# Altium integrated library Altera APEX 20KE.IntLib: 235 symbols (part 46 of 49)
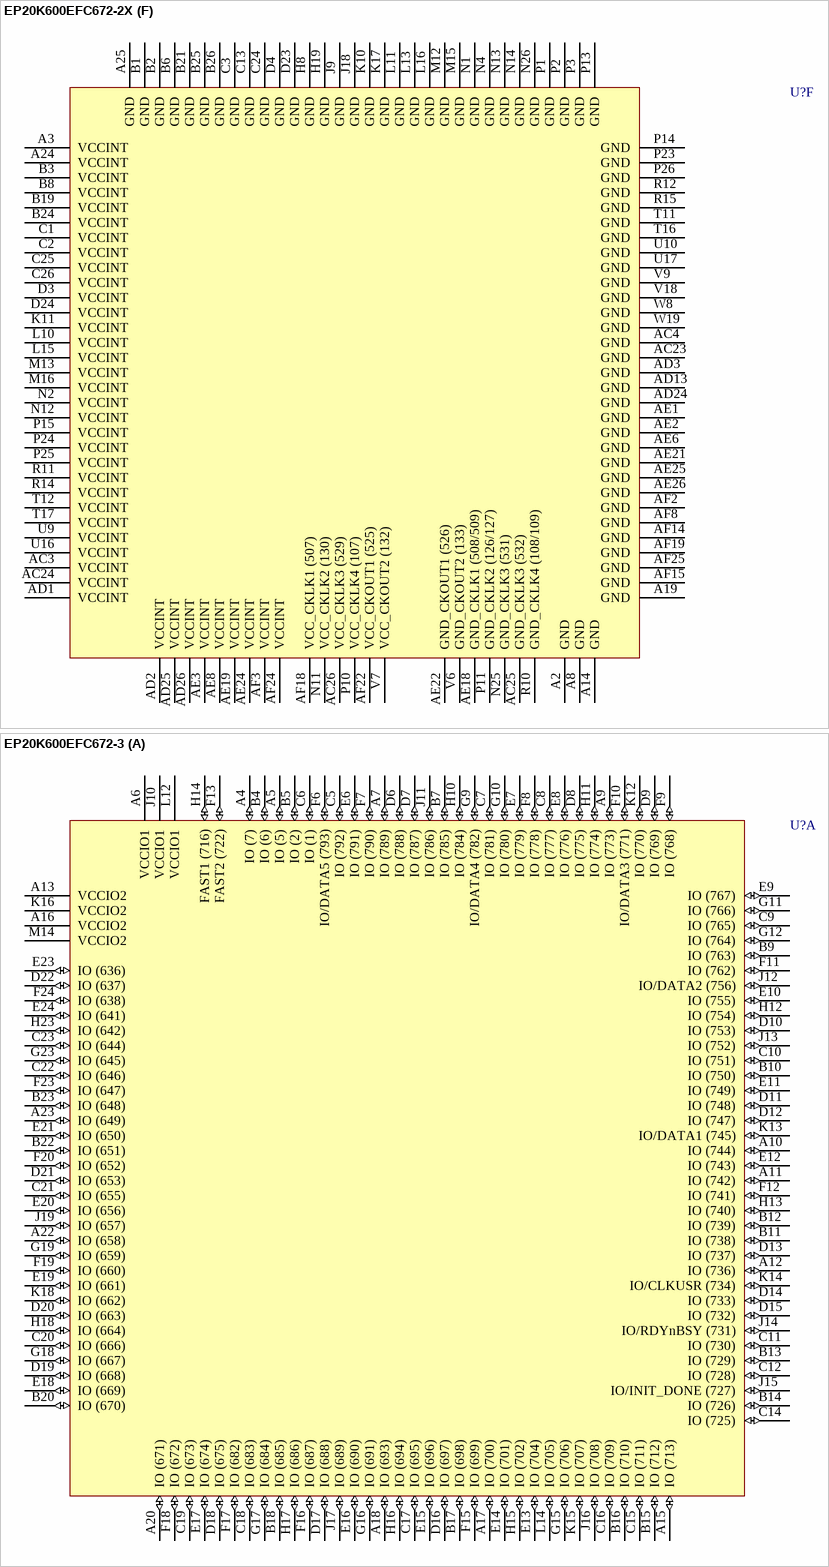
[diagram p444: symbols EP20K600EFC672-2X to EP20K600EFC672-3]

## EP20K1500EBC652-2
designator U?
APEX 20K1500E PLD, 652-Pin BGA, Commercial Grade, Speed Grade 2; Published: 17-Jul-2002; LatestRevisionDate: 13-Apr-2006; LatestRevisionNote: IPC-7351 Footprint Added.; DatasheetVersion: Mar-2004; PackageVersion: ver14.1, Oct-2005; PackageReference: BGA652; Publisher: Altium Limited; PackageDescription: 652-Ball Ball Grid Array (BGA652); Code_JEDEC: MO-192-BAW-1; ComponentLink1Description: Manufacturer Link; ComponentLink1URL: http://www.altera.com/products/devices/apex/apx-index.html; ComponentLink2Description: Datasheet; ComponentLink2URL: http://www.altera.com/literature/ds/apex.pdf
footprint BGA652 (BGA, 652-Leads, Body 45x45mm, Pitch 1.27mm)
3D model EP20K1500E-BGA652TU (652-Ball Ball Grid Array (BGA652))
part A pins: A2 IO (1081) (io), A3 IO (1074) (io), A4 IO (1066) (io), A5 IO (1062) (io), A6 IO (1051) (io), A7 IO (1044) (io), A8 IO/DATA2 (1033) (io), A9 IO (1028) (io), A10 IO (1019) (io), A11 IO (1010) (io), A12 IO (1006) (io), A13 IO (1004) (io), A14 IO/RDYnBSY (993) (io), A15 IO (991) (io), A16 IO (984) (io), A20 IO (971) (io), A21 IO (964) (io), A22 IO (962) (io), A23 IO (951) (io), A24 IO (949) (io), A25 IO (945) (io), A26 IO (936) (io), A27 IO (927) (io), A28 IO (922) (io), A29 IO (910) (io), A30 IO (903) (io), A31 IO (892) (io), A32 IO (888) (io), A33 IO (880) (io), A34 IO (873) (io), B3 IO (1084) (io), B4 IO (1080) (io), B5 IO/DATA4 (1070) (io), B6 IO (1063) (io), B7 IO/DATA3 (1053) (io), B8 IO (1045) (io), B9 IO (1039) (io), B10 IO (1029) (io), B11 IO (1024) (io), B12 IO (1014) (io), B13 IO (1007) (io), B14 IO (994) (io), B15 IO (992) (io), B16 IO (986) (io), B17 FAST2 (981) (io), B19 FAST1 (975) (io), B20 IO (969) (io), B21 IO (963) (io), B22 IO (961) (io), B23 IO (948) (io), B24 IO (941) (io), B25 IO (931) (io), B26 IO (926) (io), B27 IO (915) (io), B28 IO (909) (io), B29 IO (901) (io), B30 IO (891) (io), B31 IO (884) (io), B32 IO (874) (io), B33 IO (870) (io), C4 VCCIO1 (power), C5 IO (1082) (io), C6 IO (1076) (io), C7 IO (1064) (io), C8 IO (1056) (io), C9 IO (1047) (io), C10 IO (1041) (io), C11 IO (1031) (io), C12 IO (1025) (io), C13 IO/DATA1 (1016) (io), C14 IO (1008) (io), C15 IO/CLKUSR (998) (io), C16 IO/INIT_DONE (988) (io), C20 IO (967) (io), C21 IO (957) (io), C22 IO (947) (io), C23 IO (939) (io), C24 IO (930) (io), C25 IO (924) (io), C26 IO (913) (io), C27 IO (907) (io), C28 IO (898) (io), C29 IO (890) (io), C30 IO (878) (io), C31 IO (872) (io), C32 VCCIO2 (power), D5 VCCIO1 (power), D6 IO (1086) (io), D7 IO (1078) (io), D8 IO (1065) (io), D9 IO (1060) (io), D10 IO (1048) (io), D11 IO (1043) (io), D13 IO (1026) (io), D14 IO (1012) (io), D15 IO (1002) (io), D16 IO (990) (io), D20 IO (965) (io), D21 IO (953) (io), D22 IO (943) (io), D23 IO (929) (io), D25 IO (911) (io), D26 IO (906) (io), D27 IO (894) (io), D28 IO (889) (io), D29 IO (876) (io), D30 IO (868) (io), D31 VCCIO2 (power), E7 IO/DATA5 (1088) (io), E8 IO (1079) (io), E9 IO (1068) (io), E10 IO (1058) (io), E11 IO (1046) (io), E13 IO (1027) (io), E14 IO (1021) (io), E15 IO (1009) (io), E16 IO (996) (io), E17 VCCIO1 (power), E19 VCCIO2 (power), E20 IO (959) (io), E21 IO (946) (io), E22 IO (934) (io), E23 IO (928) (io), E25 IO (908) (io), E26 IO (896) (io), E27 IO (886) (io), E28 IO (875) (io), E29 IO (866) (io)
part B pins: AA30 IO/LOCK1 (684) (io), AA32 IO (687) (io), AA33 IO (688) (io), AA34 IO (689) (io), AB30 IO (671) (io), AB31 IO (674) (io), AB32 IO (676) (io), AB33 IO (678) (io), AB34 IO (680) (io), AB35 IO (682) (io), AC30 IO (661) (io), AC31 IO (663) (io), AC33 IO (665) (io), AC34 IO (667) (io), AC35 IO (669) (io), AD30 IO (648) (io), AD31 IO (650) (io), AD32 IO (652) (io), AD33 IO (654) (io), AD34 IO (656) (io), AD35 IO (658) (io), AE30 IO (637) (io), AE31 IO (639) (io), AE32 IO (641) (io), AE34 IO (643) (io), AE35 IO (645) (io), AF30 IO (624) (io), AF31 IO (626) (io), AF32 IO (628) (io), AF33 IO (630) (io), AF34 IO (632) (io), AF35 IO (635) (io), AG30 IO (611) (io), AG31 IO (613) (io), AG32 IO (615) (io), AG33 IO (617) (io), AG34 IO (619) (io), AG35 IO (622) (io), AH30 IO (596) (io), AH32 IO (600) (io), AH33 IO (602) (io), AH34 IO (607) (io), AJ30 IO (578) (io), AJ31 IO (580) (io), AJ32 IO (583) (io), AJ33 IO (585) (io), AJ34 IO (594) (io), AJ35 IO (610) (io), AK30 IO (563) (io), AK31 IO (567) (io), AK32 IO (569) (io), AK34 IO (589) (io), AK35 IO (605) (io), AL31 VCCIO4 (power), AL32 VCCIO4 (power), AL33 IO (561) (io), AL34 IO (572) (io), AL35 IO (591) (io), AM35 IO (574) (io), D35 IO (833) (io), E34 IO (839) (io), E35 IO (806) (io), F30 VCCIO3 (power), F31 VCCIO3 (power), F32 IO (850) (io), F33 IO (844) (io), F34 IO (811) (io), G31 IO (828) (io), G32 IO (822) (io), G33 IO (817) (io), G34 IO (800) (io), G35 IO/LVDSRX16n (775) (io), H30 IO (794) (io), H31 IO (787) (io), H32 IO (781) (io), H33 IO (779) (io), H34 IO/LVDSRX16p (776) (io), H35 IO (768) (io), J30 IO (774) (io), J31 IO/LVDSRX15n (773) (io), J32 IO/LVDSRX15p (772) (io), J33 IO/LVDSRX14p (770) (io), J34 IO/LVDSRX14n (769) (io), J35 IO/LVDSRX13n (767) (io), K30 IO/LVDSRX13p (766) (io), K32 IO/LVDSRX12p (763) (io), K33 IO/LVDSRX12n (762) (io), K34 IO (761) (io), K35 IO/LVDSRX11n (760) (io), L30 IO/LVDSRX11p (759) (io), L31 IO/LVDSRX10p (757) (io), L32 IO/LVDSRX10n (756) (io), L33 IO (755) (io), L34 IO/LVDSRX09n (754) (io), L35 IO/LVDSRX09p (753) (io), M31 IO/LVDSRX08p (750) (io), M32 IO/LVDSRX08n (749) (io), M33 IO (748) (io), M34 IO/LVDSRX07n (747) (io), M35 IO/LVDSRX07p (746) (io), N30 IO/LVDSRX06p (744) (io), N31 IO/LVDSRX06n (743) (io), N32 IO (742) (io), N33 IO/LVDSRX05n (741) (io), N34 IO/LVDSRX05p (740) (io), P30 IO/LVDSRX04p (737) (io), P31 IO/LVDSRX04n (736) (io), P32 IO (735) (io), P33 IO/LVDSRX03n (734) (io), P34 IO/LVDSRX03p (733) (io), P35 IO/LVDSRX02p (731) (io), R30 IO/LVDSRX02n (730) (io), R31 IO/LOCK3 (729) (io), R32 IO/LVDSRX01n (728) (io), R33 IO/LVDSRX01p (727) (io), R35 IO (724) (io), T30 IO (723) (io), T31 IO/LVDSRXINCLK1n (722) (io), T32 IO/LVDSRXINCLK1p (721) (io), T35 IO/CLKLK_OUT1n (716) (io), U30 VCCIO3 (power), W30 VCCIO4 (power), W34 CLK1p (706) (in), Y31 IO/CLKLK_FB1n (694) (io), Y33 IO/CLK3n (696) (io), Y34 CLK3p (697) (in), Y35 IO/CLK1n (698) (io)
part C pins: AL7 IO (324) (io), AL8 IO (333) (io), AL9 IO (344) (io), AL10 IO (354) (io), AL11 IO (366) (io), AL13 IO (385) (io), AL14 IO (391) (io), AL15 IO (403) (io), AL16 IO (416) (io), AL17 VCCIO6 (power), AL19 VCCIO5 (power), AL20 IO (452) (io), AL21 IO (465) (io), AL22 IO (477) (io), AL23 IO (483) (io), AL25 IO (502) (io), AL26 IO (514) (io), AL27 IO (524) (io), AL28 IO (535) (io), AL29 IO (544) (io), AM5 VCCIO6 (power), AM6 IO (326) (io), AM7 IO (334) (io), AM8 IO (347) (io), AM9 IO (352) (io), AM10 IO (364) (io), AM11 IO (369) (io), AM13 IO (386) (io), AM14 IO (400) (io), AM15 IO (410) (io), AM16 IO/LVDSDESKEW (422) (io), AM20 IO (446) (io), AM21 IO (458) (io), AM22 IO (468) (io), AM23 IO (482) (io), AM25 IO (499) (io), AM26 IO (504) (io), AM27 IO (516) (io), AM28 IO (521) (io), AM29 IO (534) (io), AM30 IO (542) (io), AN4 VCCIO6 (power), AN5 IO (330) (io), AN6 IO (336) (io), AN7 IO (348) (io), AN8 IO (356) (io), AN9 IO (365) (io), AN10 IO (371) (io), AN11 IO (381) (io), AN12 IO (387) (io), AN13 IO (396) (io), AN14 IO (404) (io), AN15 IO (414) (io), AN16 IO (424) (io), AN20 IO (444) (io), AN21 IO (454) (io), AN22 IO (464) (io), AN23 IO (472) (io), AN24 IO (481) (io), AN25 IO (487) (io), AN26 IO (497) (io), AN27 IO (503) (io), AN28 IO (512) (io), AN29 IO (520) (io), AN30 IO (532) (io), AN31 IO (538) (io), AN32 VCCIO5 (power), AN33 VCCIO5 (power), AP3 IO (328) (io), AP4 IO (332) (io), AP5 IO (342) (io), AP6 IO (349) (io), AP7 IO (359) (io), AP8 IO (367) (io), AP9 IO (373) (io), AP10 IO (383) (io), AP11 IO (388) (io), AP12 IO (398) (io), AP13 IO (405) (io), AP14 IO (418) (io), AP15 IO (420) (io), AP16 IO (426) (io), AP17 FAST4 (431) (io), AP19 FAST3 (437) (io), AP20 IO (442) (io), AP21 IO (448) (io), AP22 IO (450) (io), AP23 IO (463) (io), AP24 IO (470) (io), AP25 IO (480) (io), AP26 IO (485) (io), AP27 IO (495) (io), AP28 IO (501) (io), AP29 IO (509) (io), AP30 IO (519) (io), AP31 IO (526) (io), AP32 IO (536) (io), AP33 IO (540) (io), AR2 IO (331) (io), AR3 IO (338) (io), AR4 IO (346) (io), AR5 IO (350) (io), AR6 IO (361) (io), AR7 IO (368) (io), AR8 IO (379) (io), AR9 IO (384) (io), AR10 IO (393) (io), AR11 IO (402) (io), AR12 IO (406) (io), AR13 IO (408) (io), AR14 IO (419) (io), AR15 IO (421) (io), AR16 IO (428) (io), AR20 IO (440) (io), AR21 IO (447) (io), AR22 IO (449) (io), AR23 IO (460) (io), AR24 IO (462) (io), AR25 IO (466) (io), AR26 IO (475) (io), AR27 IO (484) (io), AR28 IO (489) (io), AR29 IO (500) (io), AR30 IO (507) (io), AR31 IO (518) (io), AR32 IO (522) (io), AR33 IO (530) (io), AR34 IO (537) (io)
part D pins: AA1 IO (186) (io), AA2 IO/LVDSTXOUTCLK1n (180) (io), AA3 IO/LVDSTXOUTCLK1p (181) (io), AA5 IO/LVDSTX01p (184) (io), AA6 IO/LVDSTX01n (185) (io), AB1 IO (192) (io), AB2 IO/LVDSTX02n (187) (io), AB3 IO/LVDSTX02p (188) (io), AB4 IO/LVDSTX03p (190) (io), AB5 IO/LVDSTX03n (191) (io), AB6 IO/LOCK2 (179) (io), AC1 IO/LVDSTX04n (193) (io), AC2 IO/LVDSTX04p (194) (io), AC4 IO/LVDSTX05p (197) (io), AC5 IO/LVDSTX05n (198) (io), AC6 IO/LOCK4 (199) (io), AD1 IO/LVDSTX06n (200) (io), AD2 IO/LVDSTX06p (201) (io), AD3 IO/LVDSTX07p (203) (io), AD4 IO/LVDSTX07n (204) (io), AD5 IO (205) (io), AD6 IO/LVDSTX08n (206) (io), AE1 IO/LVDSTX08p (207) (io), AE3 IO/LVDSTX09p (210) (io), AE4 IO/LVDSTX09n (211) (io), AE5 IO (212) (io), AE6 IO/LVDSTX10n (213) (io), AF1 IO/LVDSTX10p (214) (io), AF2 IO/LVDSTX11p (216) (io), AF3 IO/LVDSTX11n (217) (io), AF4 IO (218) (io), AF5 IO/LVDSTX12n (219) (io), AF6 IO/LVDSTX12p (220) (io), AG2 IO/LVDSTX13n (224) (io), AG3 IO (225) (io), AG4 IO/LVDSTX14n (226) (io), AG5 IO/LVDSTX14p (227) (io), AG6 IO/LVDSTX15p (229) (io), AH1 IO/LVDSTX13p (223) (io), AH2 IO (231) (io), AH3 IO/LVDSTX16p (233) (io), AH5 IO (236) (io), AH6 IO (238) (io), AJ1 IO/LVDSTX15n (230) (io), AJ2 IO (244) (io), AJ3 IO (263) (io), AJ4 IO (268) (io), AJ5 IO (274) (io), AJ6 IO (279) (io), AK1 IO/LVDSTX16n (232) (io), AK2 IO (257) (io), AK3 IO (290) (io), AK4 IO (296) (io), AK5 IO (301) (io), AK6 IO (307) (io), AL1 IO (251) (io), AL3 VCCIO7 (power), AL4 VCCIO7 (power), AM1 IO (285) (io), C1 IO (27) (io), D1 IO (29) (io), E1 IO (49) (io), E2 IO (33) (io), E3 VCCIO8 (power), E4 VCCIO8 (power), F1 IO (62) (io), F2 IO (46) (io), F4 IO (24) (io), F5 IO (22) (io), F6 IO (16) (io), G1 IO (68) (io), G2 IO (51) (io), G3 IO (44) (io), G4 IO (40) (io), G5 IO (38) (io), G6 IO (35) (io), H2 IO (66) (io), H3 IO (60) (io), H4 IO (57) (io), H6 IO (55) (io), J1 IO (87) (io), J2 IO (85) (io), J3 IO (81) (io), J4 IO (79) (io), J5 IO (74) (io), J6 IO (72) (io), K1 IO (107) (io), K2 IO (105) (io), K3 IO (100) (io), K4 IO (98) (io), K5 IO (94) (io), K6 IO (92) (io), L1 IO (117) (io), L2 IO (116) (io), L4 IO (113) (io), L5 IO (112) (io), L6 IO/DATA6 (111) (io), M1 IO/nWS (124) (io), M2 IO (123) (io), M3 IO (122) (io), M4 IO (120) (io), M5 IO (119) (io), M6 IO/DATA7 (118) (io), N1 IO/nRS (131) (io), N2 IO (130) (io), N3 IO (129) (io), N5 IO (126) (io), N6 IO (125) (io), P1 IO (138) (io), P2 IO/nCS (137) (io), P3 IO (136) (io), P4 IO (135) (io), P5 IO (133) (io), P6 IO (132) (io), R1 IO (146) (io), R2 IO/CS (145) (io), R6 IO (139) (io), T1 IO/CLK2n (153) (io), T2 CLK4p (152) (in), T3 IO/CLK4n (151) (io), T5 IO/CLKLK_FB2n (149) (io), T6 IO/DEV_CLRn (147) (io), U2 CLK2p (160) (in), U6 VCCIO8 (power), W5 IO/LVDSTXINCLK1p (177) (io), W6 VCCIO7 (power), Y4 IO/CLKLK_OUT2n (175) (io), Y5 IO/DEV_OE (171) (io), Y6 IO/LVDSTXINCLK1n (178) (io)
part E pins: AM17 CONF_DONE (429) (io), AM19 TMS (439) (in), AN17 nSTATUS (430) (io), AN19 TCK (438) (in), C17 TDO (982) (out), C19 nCEO (974) (out), D19 TRST (973) (in), T4 CLKLK_FB2p (150) (in), U1 nCE (161) (in), U3 DCLK (159) (in), U4 DATA0 (158) (in), U31 CLKLK_OUT1p (715) (out), U35 MSEL0 (708) (in), W1 TDI (162) (in), W32 nCONFIG (704) (in), W33 CLKLK_ENA (705) (in), W35 MSEL1 (707) (in), Y3 CLKLK_OUT2p (174) (out), Y32 CLKLK_FB1p (695) (in)
part F pins: A1 GND (power), A17 VCCINT (power), A18 GND (power), A19 VCCINT (power), A35 GND (power), AA4 VCCINT (power), AA31 VCCINT (power), AA35 VCC_CKLK1 (690) (power), AC3 VCCINT (power), AC32 VCCINT (power), AE2 VCCINT (power), AE33 VCCINT (power), AG1 VCCINT (power), AH4 VCCINT (power), AH31 VCCINT (power), AH35 VCCINT (power), AK18 GND (power), AK33 VCCINT (power), AL2 VCCINT (power), AL5 GND (power), AL6 GND (power), AL12 VCCINT (power), AL18 GND (power), AL24 VCCINT (power), AL30 GND (power), AM2 GND (power), AM3 GND (power), AM4 GND (power), AM12 VCCINT (power), AM18 GND (power), AM24 VCCINT (power), AM31 GND (power), AM32 GND (power), AM33 GND (power), AM34 GND (power), AN1 GND (power), AN2 GND (power), AN3 GND (power), AN18 GND (power), AN34 GND (power), AN35 GND (power), AP1 GND (power), AP2 GND (power), AP18 GND (power), AP34 GND (power), AP35 GND (power), AR1 GND (power), AR17 VCCINT (power), AR18 GND (power), AR19 VCCINT (power), AR35 GND (power), B1 GND (power), B2 GND (power), B18 GND (power), B34 GND (power), B35 GND (power), C2 GND (power), C3 GND (power), C18 GND (power), C33 GND (power), C34 GND (power), C35 GND (power), D2 GND (power), D3 GND (power), D4 GND (power), D12 VCCINT (power), D17 GND (power), D18 GND (power), D24 VCCINT (power), D32 GND (power), D33 GND (power), D34 GND (power), E5 GND (power), E6 GND (power), E12 VCCINT (power), E18 GND (power), E24 VCCINT (power), E30 GND (power), E31 GND (power), E32 GND (power), E33 GND (power), F3 VCCINT (power), F18 GND (power), F35 VCCINT (power), G30 VCCINT (power), H1 VCCINT (power), H5 VCCINT (power), K31 VCCINT (power), L3 VCCINT (power), M30 VCCINT (power), N4 VCCINT (power), N35 VCCINT (power), R3 GND_CKLK4 (143/144) (power), R4 VCC_CKLK4 (142) (power), R5 VCCINT (power), R34 VCCINT (power), T33 GND_CKLK3 (720) (power), T34 VCC_CKLK3 (717) (power), U5 VCCINT (power), U32 GND_CKOUT1 (714) (power), U33 VCC_CKOUT1 (713) (power), U34 VCCINT (power), V1 GND (power), V2 GND (power), V3 GND (power), V4 GND (power), V5 GND (power), V6 GND (power), V30 GND (power), V31 GND (power), V32 GND (power), V33 GND (power), V34 GND (power), V35 GND_CKLK3 (719) (power), W2 GND_CKLK2 (163/164) (power), W3 VCCINT (power), W4 VCC_CKLK2 (167) (power), W31 VCCINT (power), Y1 VCC_CKOUT2 (172) (power), Y2 GND_CKOUT2 (173) (power), Y30 GND_CKLK1 (691/692) (power)

## EP20K1500EBC652-2X
designator U?
APEX 20K1500E PLD with PLLs and LVDS, 652-Pin BGA, Commercial Grade, Speed Grade 2; Published: 17-Jul-2002; LatestRevisionDate: 13-Apr-2006; LatestRevisionNote: IPC-7351 Footprint Added.; DatasheetVersion: Mar-2004; PackageVersion: ver14.1, Oct-2005; PackageReference: BGA652; Publisher: Altium Limited; PackageDescription: 652-Ball Ball Grid Array (BGA652); Code_JEDEC: MO-192-BAW-1; ComponentLink1Description: Manufacturer Link; ComponentLink1URL: http://www.altera.com/products/devices/apex/apx-index.html; ComponentLink2Description: Datasheet; ComponentLink2URL: http://www.altera.com/literature/ds/apex.pdf
footprint BGA652 (BGA, 652-Leads, Body 45x45mm, Pitch 1.27mm)
3D model EP20K1500E-BGA652TU (652-Ball Ball Grid Array (BGA652))
part A pins: A2 IO (1081) (io), A3 IO (1074) (io), A4 IO (1066) (io), A5 IO (1062) (io), A6 IO (1051) (io), A7 IO (1044) (io), A8 IO/DATA2 (1033) (io), A9 IO (1028) (io), A10 IO (1019) (io), A11 IO (1010) (io), A12 IO (1006) (io), A13 IO (1004) (io), A14 IO/RDYnBSY (993) (io), A15 IO (991) (io), A16 IO (984) (io), A20 IO (971) (io), A21 IO (964) (io), A22 IO (962) (io), A23 IO (951) (io), A24 IO (949) (io), A25 IO (945) (io), A26 IO (936) (io), A27 IO (927) (io), A28 IO (922) (io), A29 IO (910) (io), A30 IO (903) (io), A31 IO (892) (io), A32 IO (888) (io), A33 IO (880) (io), A34 IO (873) (io), B3 IO (1084) (io), B4 IO (1080) (io), B5 IO/DATA4 (1070) (io), B6 IO (1063) (io), B7 IO/DATA3 (1053) (io), B8 IO (1045) (io), B9 IO (1039) (io), B10 IO (1029) (io), B11 IO (1024) (io), B12 IO (1014) (io), B13 IO (1007) (io), B14 IO (994) (io), B15 IO (992) (io), B16 IO (986) (io), B17 FAST2 (981) (io), B19 FAST1 (975) (io), B20 IO (969) (io), B21 IO (963) (io), B22 IO (961) (io), B23 IO (948) (io), B24 IO (941) (io), B25 IO (931) (io), B26 IO (926) (io), B27 IO (915) (io), B28 IO (909) (io), B29 IO (901) (io), B30 IO (891) (io), B31 IO (884) (io), B32 IO (874) (io), B33 IO (870) (io), C4 VCCIO1 (power), C5 IO (1082) (io), C6 IO (1076) (io), C7 IO (1064) (io), C8 IO (1056) (io), C9 IO (1047) (io), C10 IO (1041) (io), C11 IO (1031) (io), C12 IO (1025) (io), C13 IO/DATA1 (1016) (io), C14 IO (1008) (io), C15 IO/CLKUSR (998) (io), C16 IO/INIT_DONE (988) (io), C20 IO (967) (io), C21 IO (957) (io), C22 IO (947) (io), C23 IO (939) (io), C24 IO (930) (io), C25 IO (924) (io), C26 IO (913) (io), C27 IO (907) (io), C28 IO (898) (io), C29 IO (890) (io), C30 IO (878) (io), C31 IO (872) (io), C32 VCCIO2 (power), D5 VCCIO1 (power), D6 IO (1086) (io), D7 IO (1078) (io), D8 IO (1065) (io), D9 IO (1060) (io), D10 IO (1048) (io), D11 IO (1043) (io), D13 IO (1026) (io), D14 IO (1012) (io), D15 IO (1002) (io), D16 IO (990) (io), D20 IO (965) (io), D21 IO (953) (io), D22 IO (943) (io), D23 IO (929) (io), D25 IO (911) (io), D26 IO (906) (io), D27 IO (894) (io), D28 IO (889) (io), D29 IO (876) (io), D30 IO (868) (io), D31 VCCIO2 (power), E7 IO/DATA5 (1088) (io), E8 IO (1079) (io), E9 IO (1068) (io), E10 IO (1058) (io), E11 IO (1046) (io), E13 IO (1027) (io), E14 IO (1021) (io), E15 IO (1009) (io), E16 IO (996) (io), E17 VCCIO1 (power), E19 VCCIO2 (power), E20 IO (959) (io), E21 IO (946) (io), E22 IO (934) (io), E23 IO (928) (io), E25 IO (908) (io), E26 IO (896) (io), E27 IO (886) (io), E28 IO (875) (io), E29 IO (866) (io)
part B pins: AA30 IO/LOCK1 (684) (io), AA32 IO (687) (io), AA33 IO (688) (io), AA34 IO (689) (io), AB30 IO (671) (io), AB31 IO (674) (io), AB32 IO (676) (io), AB33 IO (678) (io), AB34 IO (680) (io), AB35 IO (682) (io), AC30 IO (661) (io), AC31 IO (663) (io), AC33 IO (665) (io), AC34 IO (667) (io), AC35 IO (669) (io), AD30 IO (648) (io), AD31 IO (650) (io), AD32 IO (652) (io), AD33 IO (654) (io), AD34 IO (656) (io), AD35 IO (658) (io), AE30 IO (637) (io), AE31 IO (639) (io), AE32 IO (641) (io), AE34 IO (643) (io), AE35 IO (645) (io), AF30 IO (624) (io), AF31 IO (626) (io), AF32 IO (628) (io), AF33 IO (630) (io), AF34 IO (632) (io), AF35 IO (635) (io), AG30 IO (611) (io), AG31 IO (613) (io), AG32 IO (615) (io), AG33 IO (617) (io), AG34 IO (619) (io), AG35 IO (622) (io), AH30 IO (596) (io), AH32 IO (600) (io), AH33 IO (602) (io), AH34 IO (607) (io), AJ30 IO (578) (io), AJ31 IO (580) (io), AJ32 IO (583) (io), AJ33 IO (585) (io), AJ34 IO (594) (io), AJ35 IO (610) (io), AK30 IO (563) (io), AK31 IO (567) (io), AK32 IO (569) (io), AK34 IO (589) (io), AK35 IO (605) (io), AL31 VCCIO4 (power), AL32 VCCIO4 (power), AL33 IO (561) (io), AL34 IO (572) (io), AL35 IO (591) (io), AM35 IO (574) (io), D35 IO (833) (io), E34 IO (839) (io), E35 IO (806) (io), F30 VCCIO3 (power), F31 VCCIO3 (power), F32 IO (850) (io), F33 IO (844) (io), F34 IO (811) (io), G31 IO (828) (io), G32 IO (822) (io), G33 IO (817) (io), G34 IO (800) (io), G35 IO/LVDSRX16n (775) (io), H30 IO (794) (io), H31 IO (787) (io), H32 IO (781) (io), H33 IO (779) (io), H34 IO/LVDSRX16p (776) (io), H35 IO (768) (io), J30 IO (774) (io), J31 IO/LVDSRX15n (773) (io), J32 IO/LVDSRX15p (772) (io), J33 IO/LVDSRX14p (770) (io), J34 IO/LVDSRX14n (769) (io), J35 IO/LVDSRX13n (767) (io), K30 IO/LVDSRX13p (766) (io), K32 IO/LVDSRX12p (763) (io), K33 IO/LVDSRX12n (762) (io), K34 IO (761) (io), K35 IO/LVDSRX11n (760) (io), L30 IO/LVDSRX11p (759) (io), L31 IO/LVDSRX10p (757) (io), L32 IO/LVDSRX10n (756) (io), L33 IO (755) (io), L34 IO/LVDSRX09n (754) (io), L35 IO/LVDSRX09p (753) (io), M31 IO/LVDSRX08p (750) (io), M32 IO/LVDSRX08n (749) (io), M33 IO (748) (io), M34 IO/LVDSRX07n (747) (io), M35 IO/LVDSRX07p (746) (io), N30 IO/LVDSRX06p (744) (io), N31 IO/LVDSRX06n (743) (io), N32 IO (742) (io), N33 IO/LVDSRX05n (741) (io), N34 IO/LVDSRX05p (740) (io), P30 IO/LVDSRX04p (737) (io), P31 IO/LVDSRX04n (736) (io), P32 IO (735) (io), P33 IO/LVDSRX03n (734) (io), P34 IO/LVDSRX03p (733) (io), P35 IO/LVDSRX02p (731) (io), R30 IO/LVDSRX02n (730) (io), R31 IO/LOCK3 (729) (io), R32 IO/LVDSRX01n (728) (io), R33 IO/LVDSRX01p (727) (io), R35 IO (724) (io), T30 IO (723) (io), T31 IO/LVDSRXINCLK1n (722) (io), T32 IO/LVDSRXINCLK1p (721) (io), T35 IO/CLKLK_OUT1n (716) (io), U30 VCCIO3 (power), W30 VCCIO4 (power), W34 CLK1p (706) (in), Y31 IO/CLKLK_FB1n (694) (io), Y33 IO/CLK3n (696) (io), Y34 CLK3p (697) (in), Y35 IO/CLK1n (698) (io)
part C pins: AL7 IO (324) (io), AL8 IO (333) (io), AL9 IO (344) (io), AL10 IO (354) (io), AL11 IO (366) (io), AL13 IO (385) (io), AL14 IO (391) (io), AL15 IO (403) (io), AL16 IO (416) (io), AL17 VCCIO6 (power), AL19 VCCIO5 (power), AL20 IO (452) (io), AL21 IO (465) (io), AL22 IO (477) (io), AL23 IO (483) (io), AL25 IO (502) (io), AL26 IO (514) (io), AL27 IO (524) (io), AL28 IO (535) (io), AL29 IO (544) (io), AM5 VCCIO6 (power), AM6 IO (326) (io), AM7 IO (334) (io), AM8 IO (347) (io), AM9 IO (352) (io), AM10 IO (364) (io), AM11 IO (369) (io), AM13 IO (386) (io), AM14 IO (400) (io), AM15 IO (410) (io), AM16 IO/LVDSDESKEW (422) (io), AM20 IO (446) (io), AM21 IO (458) (io), AM22 IO (468) (io), AM23 IO (482) (io), AM25 IO (499) (io), AM26 IO (504) (io), AM27 IO (516) (io), AM28 IO (521) (io), AM29 IO (534) (io), AM30 IO (542) (io), AN4 VCCIO6 (power), AN5 IO (330) (io), AN6 IO (336) (io), AN7 IO (348) (io), AN8 IO (356) (io), AN9 IO (365) (io), AN10 IO (371) (io), AN11 IO (381) (io), AN12 IO (387) (io), AN13 IO (396) (io), AN14 IO (404) (io), AN15 IO (414) (io), AN16 IO (424) (io), AN20 IO (444) (io), AN21 IO (454) (io), AN22 IO (464) (io), AN23 IO (472) (io), AN24 IO (481) (io), AN25 IO (487) (io), AN26 IO (497) (io), AN27 IO (503) (io), AN28 IO (512) (io), AN29 IO (520) (io), AN30 IO (532) (io), AN31 IO (538) (io), AN32 VCCIO5 (power), AN33 VCCIO5 (power), AP3 IO (328) (io), AP4 IO (332) (io), AP5 IO (342) (io), AP6 IO (349) (io), AP7 IO (359) (io), AP8 IO (367) (io), AP9 IO (373) (io), AP10 IO (383) (io), AP11 IO (388) (io), AP12 IO (398) (io), AP13 IO (405) (io), AP14 IO (418) (io), AP15 IO (420) (io), AP16 IO (426) (io), AP17 FAST4 (431) (io), AP19 FAST3 (437) (io), AP20 IO (442) (io), AP21 IO (448) (io), AP22 IO (450) (io), AP23 IO (463) (io), AP24 IO (470) (io), AP25 IO (480) (io), AP26 IO (485) (io), AP27 IO (495) (io), AP28 IO (501) (io), AP29 IO (509) (io), AP30 IO (519) (io), AP31 IO (526) (io), AP32 IO (536) (io), AP33 IO (540) (io), AR2 IO (331) (io), AR3 IO (338) (io), AR4 IO (346) (io), AR5 IO (350) (io), AR6 IO (361) (io), AR7 IO (368) (io), AR8 IO (379) (io), AR9 IO (384) (io), AR10 IO (393) (io), AR11 IO (402) (io), AR12 IO (406) (io), AR13 IO (408) (io), AR14 IO (419) (io), AR15 IO (421) (io), AR16 IO (428) (io), AR20 IO (440) (io), AR21 IO (447) (io), AR22 IO (449) (io), AR23 IO (460) (io), AR24 IO (462) (io), AR25 IO (466) (io), AR26 IO (475) (io), AR27 IO (484) (io), AR28 IO (489) (io), AR29 IO (500) (io), AR30 IO (507) (io), AR31 IO (518) (io), AR32 IO (522) (io), AR33 IO (530) (io), AR34 IO (537) (io)
part D pins: AA1 IO (186) (io), AA2 IO/LVDSTXOUTCLK1n (180) (io), AA3 IO/LVDSTXOUTCLK1p (181) (io), AA5 IO/LVDSTX01p (184) (io), AA6 IO/LVDSTX01n (185) (io), AB1 IO (192) (io), AB2 IO/LVDSTX02n (187) (io), AB3 IO/LVDSTX02p (188) (io), AB4 IO/LVDSTX03p (190) (io), AB5 IO/LVDSTX03n (191) (io), AB6 IO/LOCK2 (179) (io), AC1 IO/LVDSTX04n (193) (io), AC2 IO/LVDSTX04p (194) (io), AC4 IO/LVDSTX05p (197) (io), AC5 IO/LVDSTX05n (198) (io), AC6 IO/LOCK4 (199) (io), AD1 IO/LVDSTX06n (200) (io), AD2 IO/LVDSTX06p (201) (io), AD3 IO/LVDSTX07p (203) (io), AD4 IO/LVDSTX07n (204) (io), AD5 IO (205) (io), AD6 IO/LVDSTX08n (206) (io), AE1 IO/LVDSTX08p (207) (io), AE3 IO/LVDSTX09p (210) (io), AE4 IO/LVDSTX09n (211) (io), AE5 IO (212) (io), AE6 IO/LVDSTX10n (213) (io), AF1 IO/LVDSTX10p (214) (io), AF2 IO/LVDSTX11p (216) (io), AF3 IO/LVDSTX11n (217) (io), AF4 IO (218) (io), AF5 IO/LVDSTX12n (219) (io), AF6 IO/LVDSTX12p (220) (io), AG2 IO/LVDSTX13n (224) (io), AG3 IO (225) (io), AG4 IO/LVDSTX14n (226) (io), AG5 IO/LVDSTX14p (227) (io), AG6 IO/LVDSTX15p (229) (io), AH1 IO/LVDSTX13p (223) (io), AH2 IO (231) (io), AH3 IO/LVDSTX16p (233) (io), AH5 IO (236) (io), AH6 IO (238) (io), AJ1 IO/LVDSTX15n (230) (io), AJ2 IO (244) (io), AJ3 IO (263) (io), AJ4 IO (268) (io), AJ5 IO (274) (io), AJ6 IO (279) (io), AK1 IO/LVDSTX16n (232) (io), AK2 IO (257) (io), AK3 IO (290) (io), AK4 IO (296) (io), AK5 IO (301) (io), AK6 IO (307) (io), AL1 IO (251) (io), AL3 VCCIO7 (power), AL4 VCCIO7 (power), AM1 IO (285) (io), C1 IO (27) (io), D1 IO (29) (io), E1 IO (49) (io), E2 IO (33) (io), E3 VCCIO8 (power), E4 VCCIO8 (power), F1 IO (62) (io), F2 IO (46) (io), F4 IO (24) (io), F5 IO (22) (io), F6 IO (16) (io), G1 IO (68) (io), G2 IO (51) (io), G3 IO (44) (io), G4 IO (40) (io), G5 IO (38) (io), G6 IO (35) (io), H2 IO (66) (io), H3 IO (60) (io), H4 IO (57) (io), H6 IO (55) (io), J1 IO (87) (io), J2 IO (85) (io), J3 IO (81) (io), J4 IO (79) (io), J5 IO (74) (io), J6 IO (72) (io), K1 IO (107) (io), K2 IO (105) (io), K3 IO (100) (io), K4 IO (98) (io), K5 IO (94) (io), K6 IO (92) (io), L1 IO (117) (io), L2 IO (116) (io), L4 IO (113) (io), L5 IO (112) (io), L6 IO/DATA6 (111) (io), M1 IO/nWS (124) (io), M2 IO (123) (io), M3 IO (122) (io), M4 IO (120) (io), M5 IO (119) (io), M6 IO/DATA7 (118) (io), N1 IO/nRS (131) (io), N2 IO (130) (io), N3 IO (129) (io), N5 IO (126) (io), N6 IO (125) (io), P1 IO (138) (io), P2 IO/nCS (137) (io), P3 IO (136) (io), P4 IO (135) (io), P5 IO (133) (io), P6 IO (132) (io), R1 IO (146) (io), R2 IO/CS (145) (io), R6 IO (139) (io), T1 IO/CLK2n (153) (io), T2 CLK4p (152) (in), T3 IO/CLK4n (151) (io), T5 IO/CLKLK_FB2n (149) (io), T6 IO/DEV_CLRn (147) (io), U2 CLK2p (160) (in), U6 VCCIO8 (power), W5 IO/LVDSTXINCLK1p (177) (io), W6 VCCIO7 (power), Y4 IO/CLKLK_OUT2n (175) (io), Y5 IO/DEV_OE (171) (io), Y6 IO/LVDSTXINCLK1n (178) (io)
part E pins: AM17 CONF_DONE (429) (io), AM19 TMS (439) (in), AN17 nSTATUS (430) (io), AN19 TCK (438) (in), C17 TDO (982) (out), C19 nCEO (974) (out), D19 TRST (973) (in), T4 CLKLK_FB2p (150) (in), U1 nCE (161) (in), U3 DCLK (159) (in), U4 DATA0 (158) (in), U31 CLKLK_OUT1p (715) (out), U35 MSEL0 (708) (in), W1 TDI (162) (in), W32 nCONFIG (704) (in), W33 CLKLK_ENA (705) (in), W35 MSEL1 (707) (in), Y3 CLKLK_OUT2p (174) (out), Y32 CLKLK_FB1p (695) (in)
part F pins: A1 GND (power), A17 VCCINT (power), A18 GND (power), A19 VCCINT (power), A35 GND (power), AA4 VCCINT (power), AA31 VCCINT (power), AA35 VCC_CKLK1 (690) (power), AC3 VCCINT (power), AC32 VCCINT (power), AE2 VCCINT (power), AE33 VCCINT (power), AG1 VCCINT (power), AH4 VCCINT (power), AH31 VCCINT (power), AH35 VCCINT (power), AK18 GND (power), AK33 VCCINT (power), AL2 VCCINT (power), AL5 GND (power), AL6 GND (power), AL12 VCCINT (power), AL18 GND (power), AL24 VCCINT (power), AL30 GND (power), AM2 GND (power), AM3 GND (power), AM4 GND (power), AM12 VCCINT (power), AM18 GND (power), AM24 VCCINT (power), AM31 GND (power), AM32 GND (power), AM33 GND (power), AM34 GND (power), AN1 GND (power), AN2 GND (power), AN3 GND (power), AN18 GND (power), AN34 GND (power), AN35 GND (power), AP1 GND (power), AP2 GND (power), AP18 GND (power), AP34 GND (power), AP35 GND (power), AR1 GND (power), AR17 VCCINT (power), AR18 GND (power), AR19 VCCINT (power), AR35 GND (power), B1 GND (power), B2 GND (power), B18 GND (power), B34 GND (power), B35 GND (power), C2 GND (power), C3 GND (power), C18 GND (power), C33 GND (power), C34 GND (power), C35 GND (power), D2 GND (power), D3 GND (power), D4 GND (power), D12 VCCINT (power), D17 GND (power), D18 GND (power), D24 VCCINT (power), D32 GND (power), D33 GND (power), D34 GND (power), E5 GND (power), E6 GND (power), E12 VCCINT (power), E18 GND (power), E24 VCCINT (power), E30 GND (power), E31 GND (power), E32 GND (power), E33 GND (power), F3 VCCINT (power), F18 GND (power), F35 VCCINT (power), G30 VCCINT (power), H1 VCCINT (power), H5 VCCINT (power), K31 VCCINT (power), L3 VCCINT (power), M30 VCCINT (power), N4 VCCINT (power), N35 VCCINT (power), R3 GND_CKLK4 (143/144) (power), R4 VCC_CKLK4 (142) (power), R5 VCCINT (power), R34 VCCINT (power), T33 GND_CKLK3 (720) (power), T34 VCC_CKLK3 (717) (power), U5 VCCINT (power), U32 GND_CKOUT1 (714) (power), U33 VCC_CKOUT1 (713) (power), U34 VCCINT (power), V1 GND (power), V2 GND (power), V3 GND (power), V4 GND (power), V5 GND (power), V6 GND (power), V30 GND (power), V31 GND (power), V32 GND (power), V33 GND (power), V34 GND (power), V35 GND_CKLK3 (719) (power), W2 GND_CKLK2 (163/164) (power), W3 VCCINT (power), W4 VCC_CKLK2 (167) (power), W31 VCCINT (power), Y1 VCC_CKOUT2 (172) (power), Y2 GND_CKOUT2 (173) (power), Y30 GND_CKLK1 (691/692) (power)

## EP20K1500EBC652-3
designator U?
APEX 20K1500E PLD, 652-Pin BGA, Commercial Grade, Speed Grade 3; Published: 17-Jul-2002; LatestRevisionDate: 13-Apr-2006; LatestRevisionNote: IPC-7351 Footprint Added.; DatasheetVersion: Mar-2004; PackageVersion: ver14.1, Oct-2005; PackageReference: BGA652; Publisher: Altium Limited; PackageDescription: 652-Ball Ball Grid Array (BGA652); Code_JEDEC: MO-192-BAW-1; ComponentLink1Description: Manufacturer Link; ComponentLink1URL: http://www.altera.com/products/devices/apex/apx-index.html; ComponentLink2Description: Datasheet; ComponentLink2URL: http://www.altera.com/literature/ds/apex.pdf
footprint BGA652 (BGA, 652-Leads, Body 45x45mm, Pitch 1.27mm)
3D model EP20K1500E-BGA652TU (652-Ball Ball Grid Array (BGA652))
part A pins: A2 IO (1081) (io), A3 IO (1074) (io), A4 IO (1066) (io), A5 IO (1062) (io), A6 IO (1051) (io), A7 IO (1044) (io), A8 IO/DATA2 (1033) (io), A9 IO (1028) (io), A10 IO (1019) (io), A11 IO (1010) (io), A12 IO (1006) (io), A13 IO (1004) (io), A14 IO/RDYnBSY (993) (io), A15 IO (991) (io), A16 IO (984) (io), A20 IO (971) (io), A21 IO (964) (io), A22 IO (962) (io), A23 IO (951) (io), A24 IO (949) (io), A25 IO (945) (io), A26 IO (936) (io), A27 IO (927) (io), A28 IO (922) (io), A29 IO (910) (io), A30 IO (903) (io), A31 IO (892) (io), A32 IO (888) (io), A33 IO (880) (io), A34 IO (873) (io), B3 IO (1084) (io), B4 IO (1080) (io), B5 IO/DATA4 (1070) (io), B6 IO (1063) (io), B7 IO/DATA3 (1053) (io), B8 IO (1045) (io), B9 IO (1039) (io), B10 IO (1029) (io), B11 IO (1024) (io), B12 IO (1014) (io), B13 IO (1007) (io), B14 IO (994) (io), B15 IO (992) (io), B16 IO (986) (io), B17 FAST2 (981) (io), B19 FAST1 (975) (io), B20 IO (969) (io), B21 IO (963) (io), B22 IO (961) (io), B23 IO (948) (io), B24 IO (941) (io), B25 IO (931) (io), B26 IO (926) (io), B27 IO (915) (io), B28 IO (909) (io), B29 IO (901) (io), B30 IO (891) (io), B31 IO (884) (io), B32 IO (874) (io), B33 IO (870) (io), C4 VCCIO1 (power), C5 IO (1082) (io), C6 IO (1076) (io), C7 IO (1064) (io), C8 IO (1056) (io), C9 IO (1047) (io), C10 IO (1041) (io), C11 IO (1031) (io), C12 IO (1025) (io), C13 IO/DATA1 (1016) (io), C14 IO (1008) (io), C15 IO/CLKUSR (998) (io), C16 IO/INIT_DONE (988) (io), C20 IO (967) (io), C21 IO (957) (io), C22 IO (947) (io), C23 IO (939) (io), C24 IO (930) (io), C25 IO (924) (io), C26 IO (913) (io), C27 IO (907) (io), C28 IO (898) (io), C29 IO (890) (io), C30 IO (878) (io), C31 IO (872) (io), C32 VCCIO2 (power), D5 VCCIO1 (power), D6 IO (1086) (io), D7 IO (1078) (io), D8 IO (1065) (io), D9 IO (1060) (io), D10 IO (1048) (io), D11 IO (1043) (io), D13 IO (1026) (io), D14 IO (1012) (io), D15 IO (1002) (io), D16 IO (990) (io), D20 IO (965) (io), D21 IO (953) (io), D22 IO (943) (io), D23 IO (929) (io), D25 IO (911) (io), D26 IO (906) (io), D27 IO (894) (io), D28 IO (889) (io), D29 IO (876) (io), D30 IO (868) (io), D31 VCCIO2 (power), E7 IO/DATA5 (1088) (io), E8 IO (1079) (io), E9 IO (1068) (io), E10 IO (1058) (io), E11 IO (1046) (io), E13 IO (1027) (io), E14 IO (1021) (io), E15 IO (1009) (io), E16 IO (996) (io), E17 VCCIO1 (power), E19 VCCIO2 (power), E20 IO (959) (io), E21 IO (946) (io), E22 IO (934) (io), E23 IO (928) (io), E25 IO (908) (io), E26 IO (896) (io), E27 IO (886) (io), E28 IO (875) (io), E29 IO (866) (io)
part B pins: AA30 IO/LOCK1 (684) (io), AA32 IO (687) (io), AA33 IO (688) (io), AA34 IO (689) (io), AB30 IO (671) (io), AB31 IO (674) (io), AB32 IO (676) (io), AB33 IO (678) (io), AB34 IO (680) (io), AB35 IO (682) (io), AC30 IO (661) (io), AC31 IO (663) (io), AC33 IO (665) (io), AC34 IO (667) (io), AC35 IO (669) (io), AD30 IO (648) (io), AD31 IO (650) (io), AD32 IO (652) (io), AD33 IO (654) (io), AD34 IO (656) (io), AD35 IO (658) (io), AE30 IO (637) (io), AE31 IO (639) (io), AE32 IO (641) (io), AE34 IO (643) (io), AE35 IO (645) (io), AF30 IO (624) (io), AF31 IO (626) (io), AF32 IO (628) (io), AF33 IO (630) (io), AF34 IO (632) (io), AF35 IO (635) (io), AG30 IO (611) (io), AG31 IO (613) (io), AG32 IO (615) (io), AG33 IO (617) (io), AG34 IO (619) (io), AG35 IO (622) (io), AH30 IO (596) (io), AH32 IO (600) (io), AH33 IO (602) (io), AH34 IO (607) (io), AJ30 IO (578) (io), AJ31 IO (580) (io), AJ32 IO (583) (io), AJ33 IO (585) (io), AJ34 IO (594) (io), AJ35 IO (610) (io), AK30 IO (563) (io), AK31 IO (567) (io), AK32 IO (569) (io), AK34 IO (589) (io), AK35 IO (605) (io), AL31 VCCIO4 (power), AL32 VCCIO4 (power), AL33 IO (561) (io), AL34 IO (572) (io), AL35 IO (591) (io), AM35 IO (574) (io), D35 IO (833) (io), E34 IO (839) (io), E35 IO (806) (io), F30 VCCIO3 (power), F31 VCCIO3 (power), F32 IO (850) (io), F33 IO (844) (io), F34 IO (811) (io), G31 IO (828) (io), G32 IO (822) (io), G33 IO (817) (io), G34 IO (800) (io), G35 IO/LVDSRX16n (775) (io), H30 IO (794) (io), H31 IO (787) (io), H32 IO (781) (io), H33 IO (779) (io), H34 IO/LVDSRX16p (776) (io), H35 IO (768) (io), J30 IO (774) (io), J31 IO/LVDSRX15n (773) (io), J32 IO/LVDSRX15p (772) (io), J33 IO/LVDSRX14p (770) (io), J34 IO/LVDSRX14n (769) (io), J35 IO/LVDSRX13n (767) (io), K30 IO/LVDSRX13p (766) (io), K32 IO/LVDSRX12p (763) (io), K33 IO/LVDSRX12n (762) (io), K34 IO (761) (io), K35 IO/LVDSRX11n (760) (io), L30 IO/LVDSRX11p (759) (io), L31 IO/LVDSRX10p (757) (io), L32 IO/LVDSRX10n (756) (io), L33 IO (755) (io), L34 IO/LVDSRX09n (754) (io), L35 IO/LVDSRX09p (753) (io), M31 IO/LVDSRX08p (750) (io), M32 IO/LVDSRX08n (749) (io), M33 IO (748) (io), M34 IO/LVDSRX07n (747) (io), M35 IO/LVDSRX07p (746) (io), N30 IO/LVDSRX06p (744) (io), N31 IO/LVDSRX06n (743) (io), N32 IO (742) (io), N33 IO/LVDSRX05n (741) (io), N34 IO/LVDSRX05p (740) (io), P30 IO/LVDSRX04p (737) (io), P31 IO/LVDSRX04n (736) (io), P32 IO (735) (io), P33 IO/LVDSRX03n (734) (io), P34 IO/LVDSRX03p (733) (io), P35 IO/LVDSRX02p (731) (io), R30 IO/LVDSRX02n (730) (io), R31 IO/LOCK3 (729) (io), R32 IO/LVDSRX01n (728) (io), R33 IO/LVDSRX01p (727) (io), R35 IO (724) (io), T30 IO (723) (io), T31 IO/LVDSRXINCLK1n (722) (io), T32 IO/LVDSRXINCLK1p (721) (io), T35 IO/CLKLK_OUT1n (716) (io), U30 VCCIO3 (power), W30 VCCIO4 (power), W34 CLK1p (706) (in), Y31 IO/CLKLK_FB1n (694) (io), Y33 IO/CLK3n (696) (io), Y34 CLK3p (697) (in), Y35 IO/CLK1n (698) (io)
part C pins: AL7 IO (324) (io), AL8 IO (333) (io), AL9 IO (344) (io), AL10 IO (354) (io), AL11 IO (366) (io), AL13 IO (385) (io), AL14 IO (391) (io), AL15 IO (403) (io), AL16 IO (416) (io), AL17 VCCIO6 (power), AL19 VCCIO5 (power), AL20 IO (452) (io), AL21 IO (465) (io), AL22 IO (477) (io), AL23 IO (483) (io), AL25 IO (502) (io), AL26 IO (514) (io), AL27 IO (524) (io), AL28 IO (535) (io), AL29 IO (544) (io), AM5 VCCIO6 (power), AM6 IO (326) (io), AM7 IO (334) (io), AM8 IO (347) (io), AM9 IO (352) (io), AM10 IO (364) (io), AM11 IO (369) (io), AM13 IO (386) (io), AM14 IO (400) (io), AM15 IO (410) (io), AM16 IO/LVDSDESKEW (422) (io), AM20 IO (446) (io), AM21 IO (458) (io), AM22 IO (468) (io), AM23 IO (482) (io), AM25 IO (499) (io), AM26 IO (504) (io), AM27 IO (516) (io), AM28 IO (521) (io), AM29 IO (534) (io), AM30 IO (542) (io), AN4 VCCIO6 (power), AN5 IO (330) (io), AN6 IO (336) (io), AN7 IO (348) (io), AN8 IO (356) (io), AN9 IO (365) (io), AN10 IO (371) (io), AN11 IO (381) (io), AN12 IO (387) (io), AN13 IO (396) (io), AN14 IO (404) (io), AN15 IO (414) (io), AN16 IO (424) (io), AN20 IO (444) (io), AN21 IO (454) (io), AN22 IO (464) (io), AN23 IO (472) (io), AN24 IO (481) (io), AN25 IO (487) (io), AN26 IO (497) (io), AN27 IO (503) (io), AN28 IO (512) (io), AN29 IO (520) (io), AN30 IO (532) (io), AN31 IO (538) (io), AN32 VCCIO5 (power), AN33 VCCIO5 (power), AP3 IO (328) (io), AP4 IO (332) (io), AP5 IO (342) (io), AP6 IO (349) (io), AP7 IO (359) (io), AP8 IO (367) (io), AP9 IO (373) (io), AP10 IO (383) (io), AP11 IO (388) (io), AP12 IO (398) (io), AP13 IO (405) (io), AP14 IO (418) (io), AP15 IO (420) (io), AP16 IO (426) (io), AP17 FAST4 (431) (io), AP19 FAST3 (437) (io), AP20 IO (442) (io), AP21 IO (448) (io), AP22 IO (450) (io), AP23 IO (463) (io), AP24 IO (470) (io), AP25 IO (480) (io), AP26 IO (485) (io), AP27 IO (495) (io), AP28 IO (501) (io), AP29 IO (509) (io), AP30 IO (519) (io), AP31 IO (526) (io), AP32 IO (536) (io), AP33 IO (540) (io), AR2 IO (331) (io), AR3 IO (338) (io), AR4 IO (346) (io), AR5 IO (350) (io), AR6 IO (361) (io), AR7 IO (368) (io), AR8 IO (379) (io), AR9 IO (384) (io), AR10 IO (393) (io), AR11 IO (402) (io), AR12 IO (406) (io), AR13 IO (408) (io), AR14 IO (419) (io), AR15 IO (421) (io), AR16 IO (428) (io), AR20 IO (440) (io), AR21 IO (447) (io), AR22 IO (449) (io), AR23 IO (460) (io), AR24 IO (462) (io), AR25 IO (466) (io), AR26 IO (475) (io), AR27 IO (484) (io), AR28 IO (489) (io), AR29 IO (500) (io), AR30 IO (507) (io), AR31 IO (518) (io), AR32 IO (522) (io), AR33 IO (530) (io), AR34 IO (537) (io)
part D pins: AA1 IO (186) (io), AA2 IO/LVDSTXOUTCLK1n (180) (io), AA3 IO/LVDSTXOUTCLK1p (181) (io), AA5 IO/LVDSTX01p (184) (io), AA6 IO/LVDSTX01n (185) (io), AB1 IO (192) (io), AB2 IO/LVDSTX02n (187) (io), AB3 IO/LVDSTX02p (188) (io), AB4 IO/LVDSTX03p (190) (io), AB5 IO/LVDSTX03n (191) (io), AB6 IO/LOCK2 (179) (io), AC1 IO/LVDSTX04n (193) (io), AC2 IO/LVDSTX04p (194) (io), AC4 IO/LVDSTX05p (197) (io), AC5 IO/LVDSTX05n (198) (io), AC6 IO/LOCK4 (199) (io), AD1 IO/LVDSTX06n (200) (io), AD2 IO/LVDSTX06p (201) (io), AD3 IO/LVDSTX07p (203) (io), AD4 IO/LVDSTX07n (204) (io), AD5 IO (205) (io), AD6 IO/LVDSTX08n (206) (io), AE1 IO/LVDSTX08p (207) (io), AE3 IO/LVDSTX09p (210) (io), AE4 IO/LVDSTX09n (211) (io), AE5 IO (212) (io), AE6 IO/LVDSTX10n (213) (io), AF1 IO/LVDSTX10p (214) (io), AF2 IO/LVDSTX11p (216) (io), AF3 IO/LVDSTX11n (217) (io), AF4 IO (218) (io), AF5 IO/LVDSTX12n (219) (io), AF6 IO/LVDSTX12p (220) (io), AG2 IO/LVDSTX13n (224) (io), AG3 IO (225) (io), AG4 IO/LVDSTX14n (226) (io), AG5 IO/LVDSTX14p (227) (io), AG6 IO/LVDSTX15p (229) (io), AH1 IO/LVDSTX13p (223) (io), AH2 IO (231) (io), AH3 IO/LVDSTX16p (233) (io), AH5 IO (236) (io), AH6 IO (238) (io), AJ1 IO/LVDSTX15n (230) (io), AJ2 IO (244) (io), AJ3 IO (263) (io), AJ4 IO (268) (io), AJ5 IO (274) (io), AJ6 IO (279) (io), AK1 IO/LVDSTX16n (232) (io), AK2 IO (257) (io), AK3 IO (290) (io), AK4 IO (296) (io), AK5 IO (301) (io), AK6 IO (307) (io), AL1 IO (251) (io), AL3 VCCIO7 (power), AL4 VCCIO7 (power), AM1 IO (285) (io), C1 IO (27) (io), D1 IO (29) (io), E1 IO (49) (io), E2 IO (33) (io), E3 VCCIO8 (power), E4 VCCIO8 (power), F1 IO (62) (io), F2 IO (46) (io), F4 IO (24) (io), F5 IO (22) (io), F6 IO (16) (io), G1 IO (68) (io), G2 IO (51) (io), G3 IO (44) (io), G4 IO (40) (io), G5 IO (38) (io), G6 IO (35) (io), H2 IO (66) (io), H3 IO (60) (io), H4 IO (57) (io), H6 IO (55) (io), J1 IO (87) (io), J2 IO (85) (io), J3 IO (81) (io), J4 IO (79) (io), J5 IO (74) (io), J6 IO (72) (io), K1 IO (107) (io), K2 IO (105) (io), K3 IO (100) (io), K4 IO (98) (io), K5 IO (94) (io), K6 IO (92) (io), L1 IO (117) (io), L2 IO (116) (io), L4 IO (113) (io), L5 IO (112) (io), L6 IO/DATA6 (111) (io), M1 IO/nWS (124) (io), M2 IO (123) (io), M3 IO (122) (io), M4 IO (120) (io), M5 IO (119) (io), M6 IO/DATA7 (118) (io), N1 IO/nRS (131) (io), N2 IO (130) (io), N3 IO (129) (io), N5 IO (126) (io), N6 IO (125) (io), P1 IO (138) (io), P2 IO/nCS (137) (io), P3 IO (136) (io), P4 IO (135) (io), P5 IO (133) (io), P6 IO (132) (io), R1 IO (146) (io), R2 IO/CS (145) (io), R6 IO (139) (io), T1 IO/CLK2n (153) (io), T2 CLK4p (152) (in), T3 IO/CLK4n (151) (io), T5 IO/CLKLK_FB2n (149) (io), T6 IO/DEV_CLRn (147) (io), U2 CLK2p (160) (in), U6 VCCIO8 (power), W5 IO/LVDSTXINCLK1p (177) (io), W6 VCCIO7 (power), Y4 IO/CLKLK_OUT2n (175) (io), Y5 IO/DEV_OE (171) (io), Y6 IO/LVDSTXINCLK1n (178) (io)
part E pins: AM17 CONF_DONE (429) (io), AM19 TMS (439) (in), AN17 nSTATUS (430) (io), AN19 TCK (438) (in), C17 TDO (982) (out), C19 nCEO (974) (out), D19 TRST (973) (in), T4 CLKLK_FB2p (150) (in), U1 nCE (161) (in), U3 DCLK (159) (in), U4 DATA0 (158) (in), U31 CLKLK_OUT1p (715) (out), U35 MSEL0 (708) (in), W1 TDI (162) (in), W32 nCONFIG (704) (in), W33 CLKLK_ENA (705) (in), W35 MSEL1 (707) (in), Y3 CLKLK_OUT2p (174) (out), Y32 CLKLK_FB1p (695) (in)
part F pins: A1 GND (power), A17 VCCINT (power), A18 GND (power), A19 VCCINT (power), A35 GND (power), AA4 VCCINT (power), AA31 VCCINT (power), AA35 VCC_CKLK1 (690) (power), AC3 VCCINT (power), AC32 VCCINT (power), AE2 VCCINT (power), AE33 VCCINT (power), AG1 VCCINT (power), AH4 VCCINT (power), AH31 VCCINT (power), AH35 VCCINT (power), AK18 GND (power), AK33 VCCINT (power), AL2 VCCINT (power), AL5 GND (power), AL6 GND (power), AL12 VCCINT (power), AL18 GND (power), AL24 VCCINT (power), AL30 GND (power), AM2 GND (power), AM3 GND (power), AM4 GND (power), AM12 VCCINT (power), AM18 GND (power), AM24 VCCINT (power), AM31 GND (power), AM32 GND (power), AM33 GND (power), AM34 GND (power), AN1 GND (power), AN2 GND (power), AN3 GND (power), AN18 GND (power), AN34 GND (power), AN35 GND (power), AP1 GND (power), AP2 GND (power), AP18 GND (power), AP34 GND (power), AP35 GND (power), AR1 GND (power), AR17 VCCINT (power), AR18 GND (power), AR19 VCCINT (power), AR35 GND (power), B1 GND (power), B2 GND (power), B18 GND (power), B34 GND (power), B35 GND (power), C2 GND (power), C3 GND (power), C18 GND (power), C33 GND (power), C34 GND (power), C35 GND (power), D2 GND (power), D3 GND (power), D4 GND (power), D12 VCCINT (power), D17 GND (power), D18 GND (power), D24 VCCINT (power), D32 GND (power), D33 GND (power), D34 GND (power), E5 GND (power), E6 GND (power), E12 VCCINT (power), E18 GND (power), E24 VCCINT (power), E30 GND (power), E31 GND (power), E32 GND (power), E33 GND (power), F3 VCCINT (power), F18 GND (power), F35 VCCINT (power), G30 VCCINT (power), H1 VCCINT (power), H5 VCCINT (power), K31 VCCINT (power), L3 VCCINT (power), M30 VCCINT (power), N4 VCCINT (power), N35 VCCINT (power), R3 GND_CKLK4 (143/144) (power), R4 VCC_CKLK4 (142) (power), R5 VCCINT (power), R34 VCCINT (power), T33 GND_CKLK3 (720) (power), T34 VCC_CKLK3 (717) (power), U5 VCCINT (power), U32 GND_CKOUT1 (714) (power), U33 VCC_CKOUT1 (713) (power), U34 VCCINT (power), V1 GND (power), V2 GND (power), V3 GND (power), V4 GND (power), V5 GND (power), V6 GND (power), V30 GND (power), V31 GND (power), V32 GND (power), V33 GND (power), V34 GND (power), V35 GND_CKLK3 (719) (power), W2 GND_CKLK2 (163/164) (power), W3 VCCINT (power), W4 VCC_CKLK2 (167) (power), W31 VCCINT (power), Y1 VCC_CKOUT2 (172) (power), Y2 GND_CKOUT2 (173) (power), Y30 GND_CKLK1 (691/692) (power)